# Altium footprint library AltiumLibraries.PcbLib: 91 footprints (part 6 of 6)
Each footprint in its own frame and in the unit in brackets; x right, y up, seen from the top. Pads: shape width x height; smd on the part's side, far side on the other; paste and mask are expansions set on the pad; w line width, h text height; cw(c..) or ccw(c..) is an arc to the next point about the centre after c.
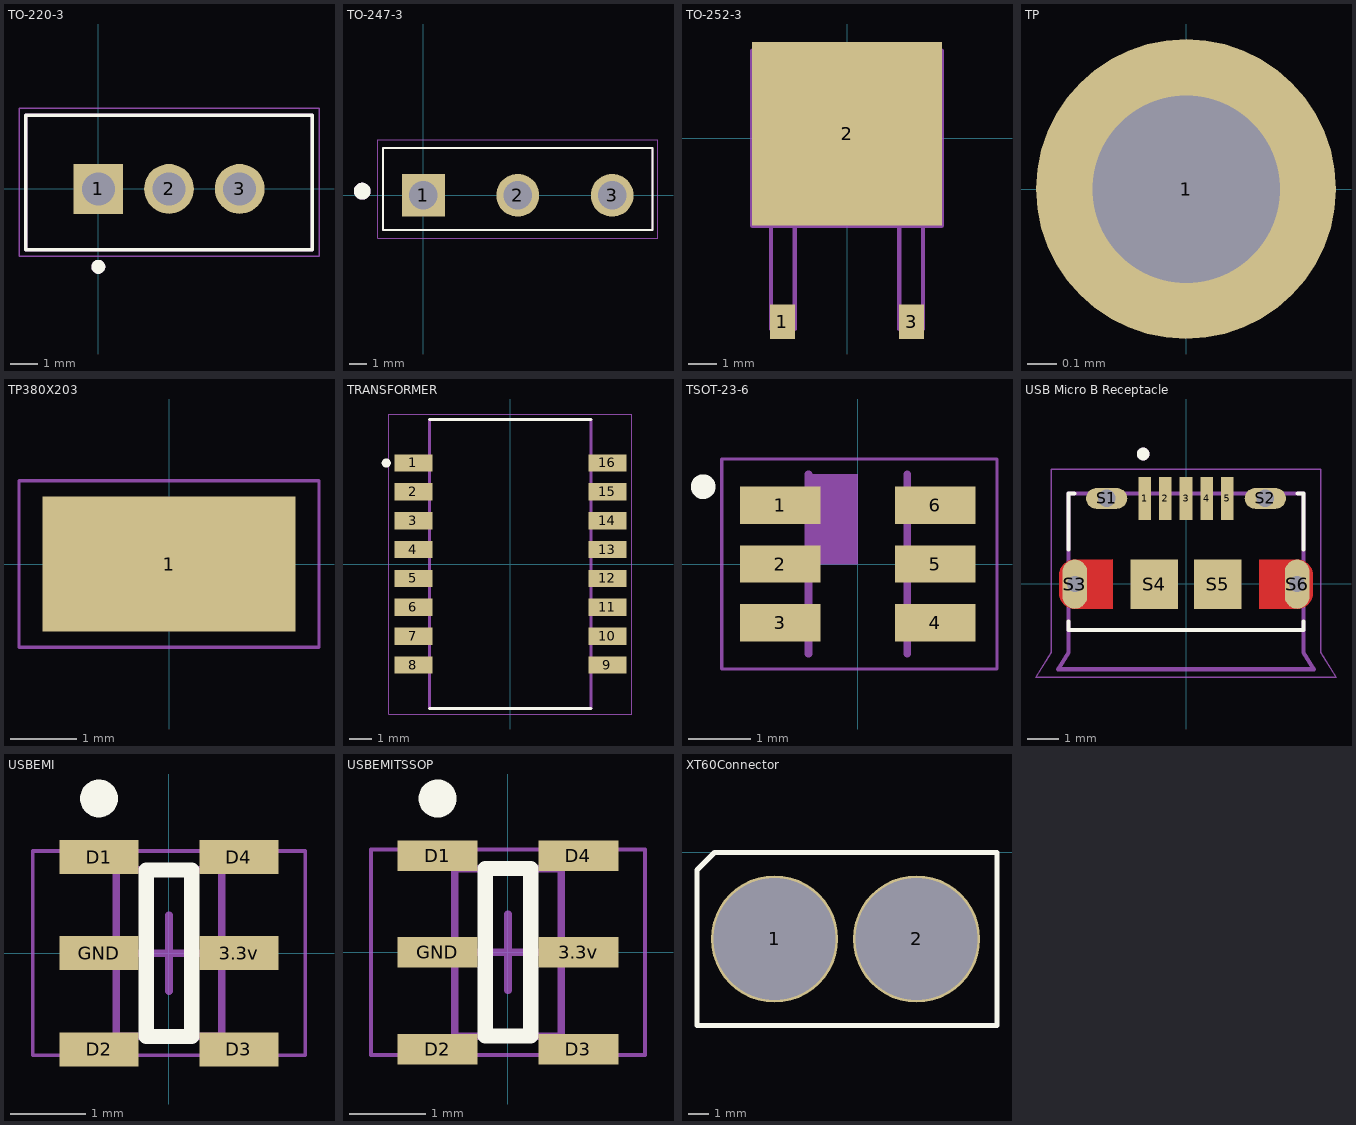
[diagram p5: the footprints below, top view; thin cyan lines are the x and y axes]

## TO-220-3 [mm]
pads (3):
  rect 1.79x1.79 hole 1.19: 1(0,0)
  round 1.79 hole 1.19: 2(2.54,0) 3(5.08,0)
Top Overlay:
  circle w0.3: c0,-2.8 r0.1
  lines w0.127: -2.6,-2.18 -2.6,2.64 7.68,2.64 7.68,-2.18 -2.6,-2.18
Mechanical 4:
  circle w0.3: c0,-2.8 r0.1
  circle w0.3: c0,-2.8 r0.1
  lines w0.127: -2.6,-2.18 7.68,-2.18 ; -2.6,-2.18 -2.6,2.64 ; -2.6,-2.18 7.68,-2.18 ; -2.6,-2.18 -2.6,2.64 ; -2.6,2.64 7.68,2.64 ; -2.6,2.64 7.68,2.64 ; 7.68,-2.18 7.68,2.64 ; 7.68,-2.18 7.68,2.64
Mechanical 16:
  lines w0.05: -2.85,-2.427 7.93,-2.427 7.93,2.893 -2.85,2.893 -2.85,-2.427

## TO-247-3 [mm]
pads (3):
  rect 2.52x2.52 hole 1.68: 1(0,0)
  round 2.52 hole 1.68: 2(5.56,0) 3(11.12,0)
Top Overlay:
  circle w0.5: c-3.6,0.24 r0.25
  lines w0.127: -2.38,-2.04 -2.38,2.78 13.5,2.78 13.5,-2.04 -2.38,-2.04
Mechanical 13:
  circle w0.5: c-3.6,0.24 r0.25
  lines w0.127: -2.38,-2.04 -2.38,2.78 13.5,2.78 13.5,-2.04 -2.38,-2.04
Mechanical 15:
  lines w0.05: -2.7,-2.53 -2.7,3.27 13.82,3.27 13.82,-2.53 -2.7,-2.53

## TO-252-3 [mil]
pads (3):
  rect 35x48 smd: 1(-90,-256) 3(90,-256)
  rect 265x256 smd: 2(0,6)
Mechanical 4:
  lines w6: -132,-122 132,-122 ; -132,-122 -132,122 ; -132,-122 132,-122 ; -132,-122 -132,122 ; -132,122 132,122 ; -132,122 132,122 ; -106,-266 -106,-122 ; -106,-266 -73,-266 ; -106,-266 -106,-122 ; -106,-266 -73,-266 ; -106,-122 -73,-122 ; -106,-122 -73,-122 ; -73,-266 -73,-122 ; -73,-266 -73,-122 ; 73,-266 73,-122 ; 73,-266 106,-266 ; 73,-266 73,-122 ; 73,-266 106,-266 ; 73,-122 106,-122 ; 73,-122 106,-122 ; 106,-266 106,-122 ; 106,-266 106,-122 ; 132,-122 132,122 ; 132,-122 132,122

## TP [mil] "Test point (40mil Standard)"
pads (1):
  round 40 hole 25: 1(0,0)

## TP380X203 [mm]
pads (1):
  rect 3.8x2.03 smd: 1(0,0)
Mechanical 15:
  lines w0.05: -2.25,-1.25 2.25,-1.25 2.25,1.25 -2.25,1.25 -2.25,-1.25

## TRANSFORMER [mm]
pads (16):
  rect 1.67x0.76 smd: 1(-4.265,4.445) 2(-4.265,3.175) 3(-4.265,1.905) 4(-4.265,0.635) 5(-4.265,-0.635) 6(-4.265,-1.905) 7(-4.265,-3.175) 8(-4.265,-4.445) 9(4.265,-4.445) 10(4.265,-3.175) 11(4.265,-1.905) 12(4.265,-0.635) 13(4.265,0.635) 14(4.265,1.905) 15(4.265,3.175) 16(4.265,4.445)
Top Overlay:
  circle w0.2: c-5.461,4.445 r0.1
  lines w0.127: -3.555,-6.35 3.555,-6.35 ; -3.555,6.35 3.555,6.35
Mechanical 4:
  lines w0.127: -3.555,-6.35 3.555,-6.35 ; -3.555,-6.35 -3.555,6.35 ; -3.555,-6.35 3.555,-6.35 ; -3.555,-6.35 -3.555,6.35 ; -3.555,6.35 3.555,6.35 ; -3.555,6.35 3.555,6.35 ; 3.555,-6.35 3.555,6.35 ; 3.555,-6.35 3.555,6.35
Mechanical 15:
  lines w0.05: -5.35,-6.6 5.35,-6.6 5.35,6.6 -5.35,6.6 -5.35,-6.6

## TSOT-23-6 [mm] "SOT-23-6 Thin"
pads (6):
  rect 1.3x0.6 smd: 1(-1.255,0.95) 2(-1.255,0) 3(-1.255,-0.95) 4(1.255,-0.95) 5(1.255,0) 6(1.255,0.95)
Top Overlay:
  circle w0.2: c-2.5,1.25 r0.1
Mechanical 13:
  region: 0,0 -0.8,0 -0.8,1.45 0,1.45
  lines w0.127: -0.8,-1.45 -0.8,1.45 ; 0.8,-1.45 0.8,1.45
Mechanical 15:
  lines w0.05: -2.2,-1.7 2.25,-1.7 2.25,1.7 -2.2,1.7 -2.2,-1.7
3D body "TPS563200DDCR.stp": height 0.97, standoff 0, extent -1.4,-1.45 1.4,1.45

## USB Micro B Receptacle [mm] "CONN RCPT USB2.0 MICRO B SMD R/A"
pads (11):
  rect 0.4x1.35 smd: 1(-1.3,2.69) 2(-0.65,2.69) 3(0,2.69) 4(0.65,2.69) 5(1.3,2.69)
  oval 1.3x0.65 hole 0.55: S1(-2.5,2.69) S2(2.5,2.69)
  oval 0.775x1.55 hole 0.5: S3(-3.5,-0.01) S6(3.5,-0.01)
  rect 1.5x1.55 smd: S4(-1,-0.01) S5(1,-0.01)
Top Layer:
  region: 193 vertices and 0 holes, not listed, extent -4,-0.785 -2.3,0.77
  region: 193 vertices and 0 holes, not listed, extent 2.3,-0.79 4,0.765
Top Overlay:
  circle w0.2: c-1.35,4.09 r0.1
  lines w0.127: -3.7,-1.19 -3.7,-1.46 3.7,-1.46 3.7,-1.19 ; -3.7,1.085 -3.7,2.84 -3.52,2.84 ; 3.52,2.84 3.7,2.84 3.7,1.085
Top Paste:
  drawing of 6 lines, arcs and shapes, not listed
Top Solder:
  region: -3.6,0.865 -2.2,0.865 -2.2,-0.885 -3.6,-0.885 -3.626,-0.884 -3.652,-0.882 -3.678,-0.879 -3.704,-0.874 -3.729,-0.868 -3.755,-0.861 -3.779,-0.852 -3.803,-0.842 -3.827,-0.831 -3.85,-0.818 -3.872,-0.804 -3.894,-0.79 -3.915,-0.774 -3.935,-0.757 -3.954,-0.739 -3.972,-0.72 -3.989,-0.7 -4.005,-0.679 -4.019,-0.657 -4.033,-0.635 -4.046,-0.612 -4.057,-0.588 -4.067,-0.564 -4.076,-0.54 -4.083,-0.514 -4.089,-0.489 -4.094,-0.463 -4.097,-0.437 -4.099,-0.411 -4.1,-0.385 -4.1,0.365 -4.099,0.391 -4.097,0.417 -4.094,0.443 -4.089,0.469 -4.083,0.494 -4.076,0.52 -4.067,0.544 -4.057,0.568 -4.046,0.592 -4.033,0.615 -4.019,0.637 -4.005,0.659 -3.989,0.68 -3.972,0.7 -3.954,0.719 -3.935,0.737 -3.915,0.754 -3.894,0.77 -3.872,0.784 -3.85,0.798 -3.827,0.811 -3.803,0.822 -3.779,0.832 -3.755,0.841 -3.729,0.848 -3.704,0.854 -3.678,0.859 -3.652,0.862 -3.626,0.864
  region: 3.6,-0.885 2.2,-0.885 2.2,0.865 3.6,0.865 3.626,0.864 3.652,0.862 3.678,0.859 3.704,0.854 3.729,0.848 3.755,0.841 3.779,0.832 3.803,0.822 3.827,0.811 3.85,0.798 3.872,0.784 3.894,0.77 3.915,0.754 3.935,0.737 3.954,0.719 3.972,0.7 3.989,0.68 4.005,0.659 4.019,0.637 4.033,0.615 4.046,0.592 4.057,0.568 4.067,0.544 4.076,0.52 4.083,0.494 4.089,0.469 4.094,0.443 4.097,0.417 4.099,0.391 4.1,0.365 4.1,-0.385 4.099,-0.411 4.097,-0.437 4.094,-0.463 4.089,-0.489 4.083,-0.514 4.076,-0.54 4.067,-0.564 4.057,-0.588 4.046,-0.612 4.033,-0.635 4.019,-0.657 4.005,-0.679 3.989,-0.7 3.972,-0.72 3.954,-0.739 3.935,-0.757 3.915,-0.774 3.894,-0.79 3.872,-0.804 3.85,-0.818 3.827,-0.831 3.803,-0.842 3.779,-0.852 3.755,-0.861 3.729,-0.868 3.704,-0.874 3.678,-0.879 3.652,-0.882 3.626,-0.884
Mechanical 1:
  lines w0: -3.75,-0.335 ccw(c-3.5,-0.335) -3.25,-0.335 -3.25,0.315 ccw(c-3.5,0.315) -3.75,0.315 -3.75,-0.335 ; -2.65,2.415 cw(c-2.65,2.69) -2.65,2.965 -2.35,2.965 cw(c-2.35,2.69) -2.35,2.415 -2.65,2.415 ; 2.35,2.415 cw(c2.35,2.69) 2.35,2.965 2.65,2.965 cw(c2.65,2.69) 2.65,2.415 2.35,2.415 ; 3.25,-0.335 ccw(c3.5,-0.335) 3.75,-0.335 3.75,0.315 ccw(c3.5,0.315) 3.25,0.315 3.25,-0.335
Mechanical 13:
  circle w0.2: c-1.35,4.09 r0.1
  circle w0.2: c-1.35,4.09 r0.1
  lines w0.127: -4.025,-2.69 -3.7,-2.16 ; -4.025,-2.69 4.025,-2.69 ; -4.025,-2.69 -3.7,-2.16 ; -4.025,-2.69 4.025,-2.69 ; -3.7,-2.16 -3.7,-1.46 ; -3.7,-2.16 -3.7,-1.46 ; -3.7,-1.46 3.7,-1.46 ; -3.7,-1.46 -3.7,2.84 ; -3.7,-1.46 3.7,-1.46 ; -3.7,-1.46 -3.7,2.84 ; -3.7,2.84 3.7,2.84 ; -3.7,2.84 3.7,2.84 ; 3.7,-2.16 4.025,-2.69 ; 3.7,-2.16 3.7,-1.46 ; 3.7,-2.16 4.025,-2.69 ; 3.7,-2.16 3.7,-1.46 ; 3.7,-1.46 3.7,2.84 ; 3.7,-1.46 3.7,2.84
  text "PCB END" at -1.95,-2.36 h1.88
  text "PCB END" at -1.95,-2.36 h1.88
Mechanical 15:
  lines w0.05: -4.725,-2.94 4.725,-2.94 4.25,-2.16 4.25,3.615 -4.25,3.615 -4.25,-2.16 -4.725,-2.94
3D body "10118194-0001LF--3DModel-STEP-56544.STEP": height 2.87, standoff -0.4, extent -4.005,-2.74 4.045,2.79

## USBEMI [mm] "RC (Pi) EMI Filter 2nd Order Low Pass 2 Channel R = 33Ohms, C = 47pF  6-TSSOP, SC-88, SOT-363"
height 1.1
pads (6):
  rect 1.05x0.45 smd: 3.3v(0.925,0) D1(-0.925,1.27) D2(-0.925,-1.27) D3(0.925,-1.27) D4(0.925,1.27) GND(-0.925,0)
Top Overlay:
  circle w0.25: c-0.925,2.045 r0.125
  lines w0.2: -0.3,-1.1 0.3,-1.1 0.3,1.1 -0.3,1.1 -0.3,-1.1
Mechanical 13:
  lines w0.1: -0.7,-1.1 0.7,-1.1 0.7,1.1 -0.7,1.1 -0.7,-1.1
Mechanical 15:
  lines w0.05: -1.8,-1.35 1.8,-1.35 1.8,1.35 -1.8,1.35 -1.8,-1.35
  lines w0.1: -0.5,0 0.5,0 ; 0,-0.5 0,0.5
3D body: height 1.1, standoff 0.8, extent -0.7,-1.1 0.7,1.1

## USBEMITSSOP [mm] "RC (Pi) EMI Filter 2nd Order Low Pass 2 Channel R = 33Ohms, C = 47pF  6-TSSOP, SC-88, SOT-363"
height 1.1
pads (6):
  rect 1.05x0.4 smd: 3.3v(0.925,0) D1(-0.925,1.27) D2(-0.925,-1.27) D3(0.925,-1.27) D4(0.925,1.27) GND(-0.925,0)
Top Overlay:
  circle w0.25: c-0.925,2.02 r0.125
  lines w0.2: -0.3,-1.1 -0.3,1.1 0.3,1.1 0.3,-1.1 -0.3,-1.1
Mechanical 13:
  lines w0.1: -0.7,-1.1 -0.7,1.1 0.7,1.1 0.7,-1.1 -0.7,-1.1
Mechanical 15:
  lines w0.05: -1.8,-1.35 -1.8,1.35 1.8,1.35 1.8,-1.35 -1.8,-1.35
  lines w0.1: -0.5,0 0.5,0 ; 0,-0.5 0,0.5
3D body: height 1.1, standoff 0.1, extent -0.7,-1.1 0.7,1.1

## XT60Connector [mm]
pads (2):
  round 6.25 hole 6: 1(4.572,-4.25) 2(11.55,-4.25)
Top Overlay:
  lines w0.254: 4.05,-4.25 4.05,-3.5 ; 7.75,0 1.624,0 ; 11.45,-4.25 11.45,-3 ; 1.624,0 0.762,-0.862 0.762,-8.5 15.5,-8.5 15.5,0 1.624,0